# EAGLE library part BLUETOOTH40-NRF51822 (library bluetooth40-nrf51822)
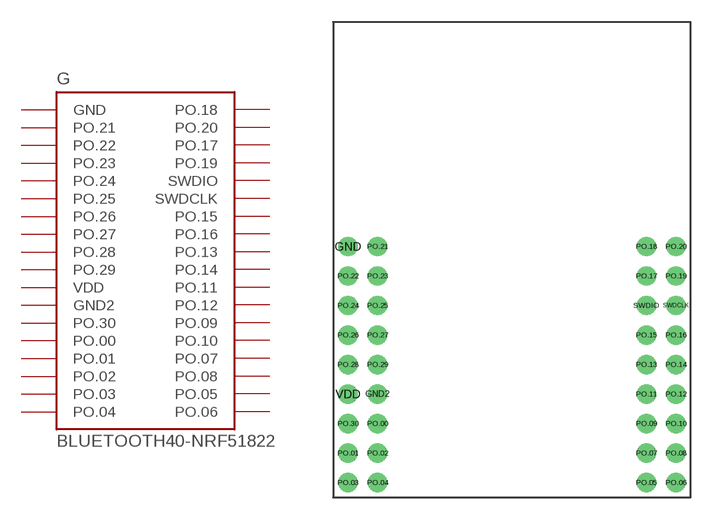
[diagram p0: symbol with the pads of BLUETOOTH40-NR51822; footprint BLUETOOTH40-NR51822]

Designator prefix G

## BLUETOOTH40-NRF51822  [BLUETOOTH40-NR51822]
GND  GND  pwr
GND2  GND2  pwr
PO.00  PO.00
PO.01  PO.01
PO.02  PO.02
PO.03  PO.03
PO.04  PO.04
PO.05  PO.05
PO.06  PO.06
PO.07  PO.07
PO.08  PO.08
PO.09  PO.09
PO.10  PO.10
PO.11  PO.11
PO.12  PO.12
PO.13  PO.13
PO.14  PO.14
PO.15  PO.15
PO.16  PO.16
PO.17  PO.17
PO.18  PO.18
PO.19  PO.19
PO.20  PO.20
PO.21  PO.21
PO.22  PO.22
PO.23  PO.23
PO.24  PO.24
PO.25  PO.25
PO.26  PO.26
PO.27  PO.27
PO.28  PO.28
PO.29  PO.29
PO.30  PO.30
SWDCLK  SWDCLK
SWDIO  SWDIO
VDD  VDD  pwr

## Footprint BLUETOOTH40-NR51822 (pad centres in mm)
drill 0.8: GND -11.1,8; GND2 -9.1,-2; PO.00 -9.1,-4; PO.01 -11.1,-6; PO.02 -9.1,-6; PO.03 -11.1,-8; PO.04 -9.1,-8; PO.05 9.1,-8; PO.06 11.1,-8; PO.07 9.1,-6; PO.08 11.1,-6; PO.09 9.1,-4; PO.10 11.1,-4; PO.11 9.1,-2; PO.12 11.1,-2; PO.13 9.1,0; PO.14 11.1,0; PO.15 9.1,2; PO.16 11.1,2; PO.17 9.1,6; PO.18 9.1,8; PO.19 11.1,6; PO.20 11.1,8; PO.21 -9.1,8; PO.22 -11.1,6; PO.23 -9.1,6; PO.24 -11.1,4; PO.25 -9.1,4; PO.26 -11.1,2; PO.27 -9.1,2; PO.28 -11.1,0; PO.29 -9.1,0; PO.30 -11.1,-4; SWDCLK 11.1,4; SWDIO 9.1,4; VDD -11.1,-2